# EAGLE library part CP2104_FRIEND (library ME433_HW6_lib)
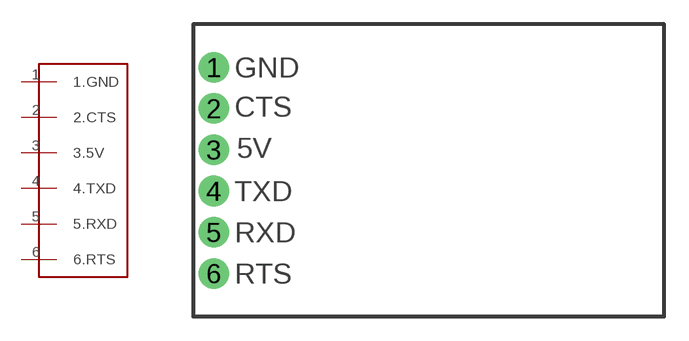
[diagram p8: symbol with the pads of CP2104_FRIEND; footprint CP2104_FRIEND]

Designator prefix -

## CP2104_FRIEND  [CP2104_FRIEND]
1  1.GND
2  2.CTS
3  3.5V
4  4.TXD
5  5.RXD
6  6.RTS

## Footprint CP2104_FRIEND (pad centres in mm)
drill 1.016 pad 1.88: 1 -12.7,21.59; 2 -12.7,19.05; 3 -12.7,16.51; 4 -12.7,13.97; 5 -12.7,11.43; 6 -12.7,8.89